# Altium schematic symbol library SolderBridge.SchLib: 1 symbol
Pins are listed as number, name and electrical type; pins without a type are passive.

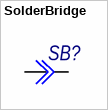
[diagram p0: symbol SolderBridge]

## SolderBridge
designator SB?  (value not drawn)  (net tie, no BOM)
footprint SolderBrisge_10A
footprint SolderBridge
footprint SolderBridge_1206 (Footprint not found)
pins: 1, 2